# Altium schematic symbol library PJ-W17-03.SchLib: 1 symbol
Pins are listed as number, name and electrical type; pins without a type are passive.

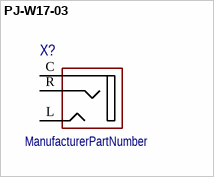
[diagram p0: symbol PJ-W17-03]

## PJ-W17-03
designator X?  (value not drawn)
ManufacturerPartNumber: ManufacturerPartNumber
pins: C, L, R